# EAGLE library part LTC2326-16 (library LTC2326-16)
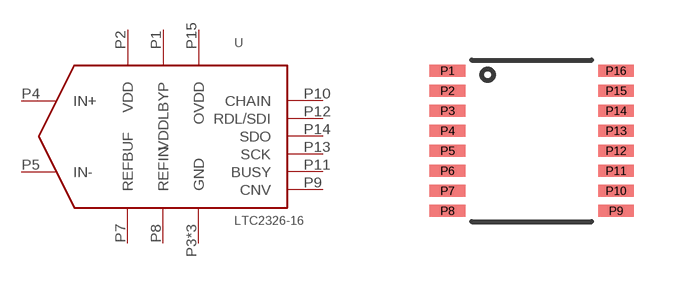
[diagram p0: symbol with the pads of 16-MSOP; footprint 16-MSOP]

Designator prefix -

## LTC2326-16  [16-MSOP]
P1  VDDLBYP  out
P2  VDD  pwr
P3  GND  pwr
P4  IN+  in
P5  IN-  in
P6  GND  pwr
P7  REFBUF
P8  REFIN
P9  CNV  in
P10  CHAIN  in
P11  BUSY  out
P12  RDL/SDI  in
P13  SCK  in
P14  SDO  out
P15  OVDD
P16  GND  pwr

## Footprint 16-MSOP (pad centres in mm)
smd 0.889 x 0.305: P1 -2.108,2.002; P2 -2.108,1.501; P3 -2.108,1.001; P4 -2.108,0.5; P5 -2.108,0; P6 -2.108,-0.5; P7 -2.108,-1.001; P8 -2.108,-1.501; P9 2.108,-1.501; P10 2.108,-1.001; P11 2.108,-0.5; P12 2.108,0; P13 2.108,0.5; P14 2.108,1.001; P15 2.108,1.501; P16 2.108,2.002